# EAGLE library part P9813-SOP14 (library IC)
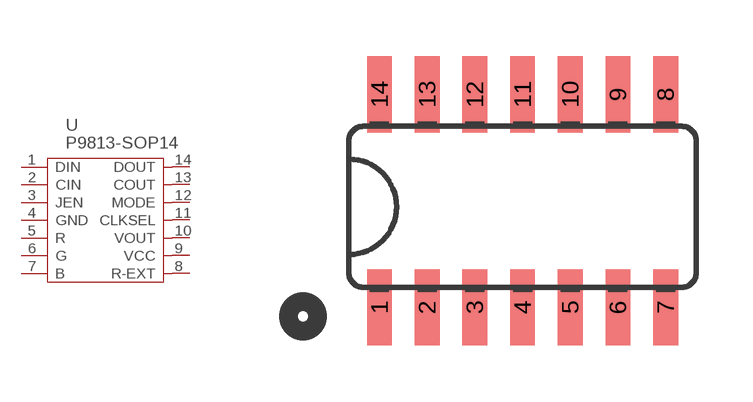
[diagram p116: symbol with the pads of SO014; footprint SO014]

Designator prefix U

## P9813-SOP14  [SO014]
1  DIN  in
2  CIN  in
3  JEN  in
4  GND  sup
5  R  out
6  G  out
7  B  out
8  R-EXT  in
9  VCC  sup
10  VOUT  out
11  CLKSEL  in
12  MODE  in
13  COUT  out
14  DOUT  out

## Footprint SO014 (pad centres in mm)
smd 0.66 x 2.032: 1 -3.175,-2.68; 2 -1.905,-2.68; 3 -0.635,-2.68; 4 0.635,-2.68; 5 1.905,-2.68; 6 3.175,-2.68; 7 4.445,-2.68; 8 4.445,2.997; 9 3.175,2.997; 10 1.905,2.997; 11 0.635,2.997; 12 -0.635,2.997; 13 -1.905,2.997; 14 -3.175,2.997